# Altium footprint library Juno_Light_Driver.PcbLib: 8 footprints
Each footprint in its own frame and in the unit in brackets; x right, y up, seen from the top. Pads: shape width x height; smd on the part's side, far side on the other; paste and mask are expansions set on the pad; w line width, h text height; cw(c..) or ccw(c..) is an arc to the next point about the centre after c.
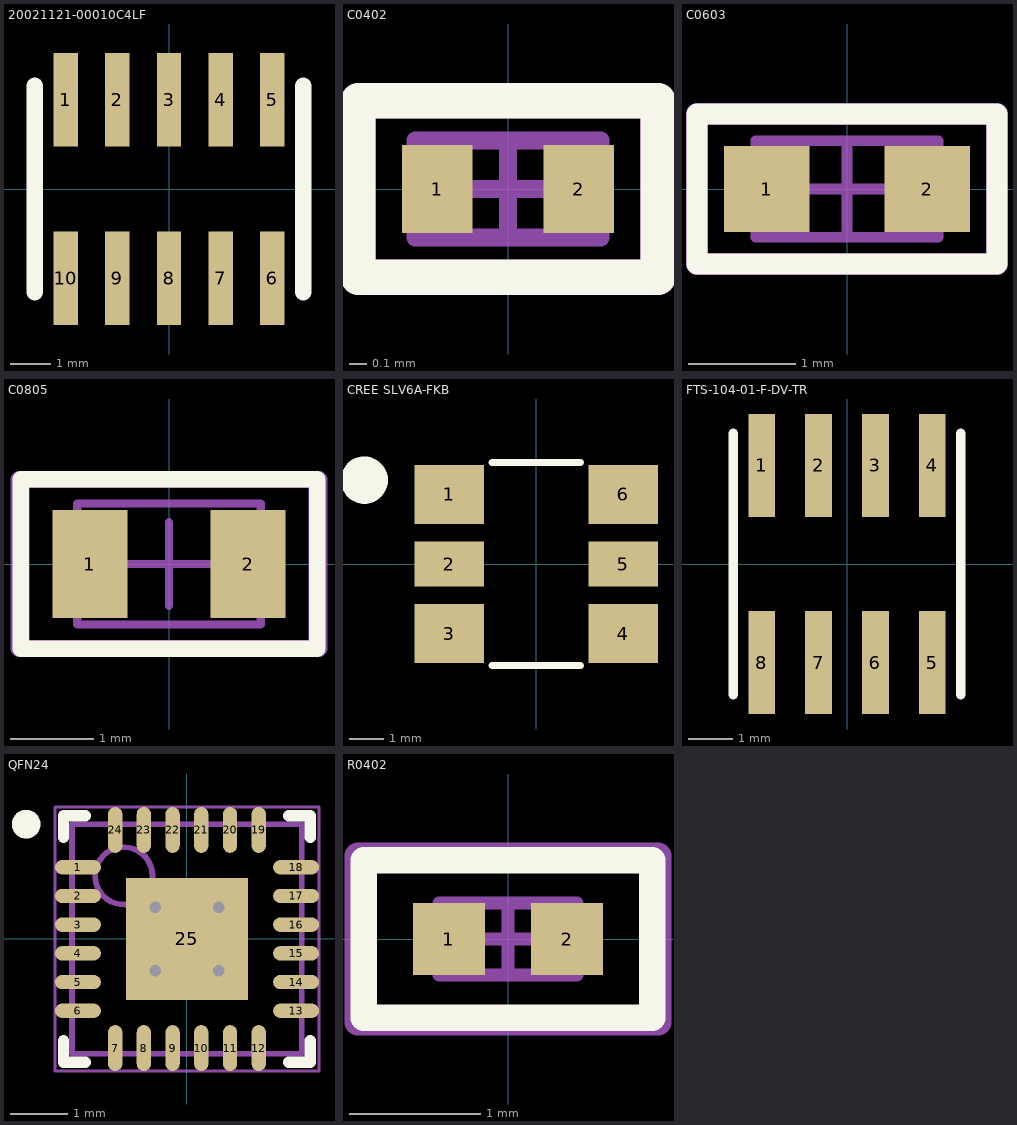
[diagram p0: the footprints below, top view; thin cyan lines are the x and y axes]

## 20021121-00010C4LF [mm]
pads (10):
  rect 0.6x2.3 smd: 1(-2.54,2.2) 2(-1.27,2.2) 3(0,2.2) 4(1.27,2.2) 5(2.54,2.2) 6(2.54,-2.2) 7(1.27,-2.2) 8(0,-2.2) 9(-1.27,-2.2) 10(-2.54,-2.2)
Top Overlay:
  lines w0.406: -3.302,-2.54 -3.302,2.54 ; 3.302,-2.54 3.302,2.54
3D body "20021121-00010XXLFc.stp": height 4.5, standoff 0, extent -3.175,-2.75 3.175,2.75

## C0402 [mm] "Chip Capacitor, 2-Leads, Body 1.00x0.50mm, IPC Medium Density"
height 0.55
pads (2):
  rect 0.4x0.5 smd: 1(-0.4,0) 2(0.4,0)
Top Overlay:
  lines w0.2: -0.85,-0.5 -0.85,0.5 0.85,0.5 0.85,-0.5 -0.85,-0.5
Mechanical 12:
  lines w0.1: -0.254,0 0.254,0 ; 0,-0.254 0,0.254
  lines w0.203: -0.85,-0.5 -0.85,0.5 0.85,0.5 0.85,-0.5 -0.85,-0.5
Mechanical 13:
  lines w0.1: -0.525,-0.275 -0.525,0.275 0.525,0.275 0.525,-0.275 -0.525,-0.275
Mechanical 15:
  lines w0.203: -0.85,-0.5 -0.85,0.5 0.85,0.5 0.85,-0.5 -0.85,-0.5
  text ".Designator" at -0.7,-0.2 h0.33
3D body "CAPC1005X06N.step": height 0.55, standoff 0, extent -0.525,-0.275 0.525,0.275

## C0603 [mm] "Chip Capacitor, 2-Leads, Body 1.60x0.80mm, IPC Medium Density"
height 0.9
pads (2):
  rect 0.8x0.8 smd: 1(-0.75,0) 2(0.75,0)
Top Overlay:
  lines w0.2: -1.4,-0.7 1.4,-0.7 1.4,0.7 -1.4,0.7 -1.4,-0.7
Mechanical 12:
  lines w0.1: -0.381,0 0.381,0 ; 0,-0.381 0,0.381
  lines w0.203: -1.4,-0.7 -1.4,0.7 1.4,0.7 1.4,-0.7 -1.4,-0.7
Mechanical 13:
  lines w0.1: -0.85,-0.45 0.85,-0.45 0.85,0.45 -0.85,0.45 -0.85,-0.45
Mechanical 15:
  lines w0.203: -1.4,-0.7 1.4,-0.7 1.4,0.7 -1.4,0.7 -1.4,-0.7
  text ".Designator" at -1.2,-0.4 h0.64
3D body "CAPC1608X09N.step": height 0.9, standoff 0, extent -0.85,-0.45 0.85,0.45

## C0805 [mm] "Chip Capacitor, 2-Leads, Body 2.00x1.25mm, IPC Medium Density"
height 1
pads (2):
  rect 0.9x1.3 smd: 1(-0.95,0) 2(0.95,0)
Top Overlay:
  lines w0.2: -1.778,-1.016 1.778,-1.016 1.778,1.016 -1.778,1.016 -1.778,-1.016
Mechanical 12:
  lines w0.1: -0.5,0 0.5,0 ; 0,-0.5 0,0.5
  lines w0.203: -1.778,-1.016 1.778,-1.016 1.778,1.016 -1.778,1.016 -1.778,-1.016
Mechanical 13:
  lines w0.1: -1.1,-0.725 -1.1,0.725 1.1,0.725 1.1,-0.725 -1.1,-0.725
Mechanical 15:
  lines w0.203: -1.8,-1.016 -1.8,1.016 1.8,1.016 1.8,-1.016 -1.8,-1.016
  text ".Designator" at -1.524,-0.762 h0.89
3D body "CAPC2012X10N.step": height 1, standoff 0, extent -1.1,-0.725 1.1,0.725

## CREE SLV6A-FKB [mm]
pads (6):
  rect 2x1.7 smd: 1(-2.5,2) 3(-2.5,-2) 4(2.5,-2) 6(2.5,2)
  rect 2x1.3 smd: 2(-2.5,0) 5(2.5,0)
Top Overlay:
  circle w1: c-4.953,2.413 r0.18
  lines w0.203: -1.27,-2.921 1.27,-2.921 ; -1.27,2.921 1.27,2.921
3D body "CREE - SLV6A-FKB.step": height 2.6, standoff 0, extent -2.8,-2.8 2.8,2.8

## FTS-104-01-F-DV-TR [mm]
pads (8):
  rect 0.6x2.3 smd: 1(-1.905,2.2) 2(-0.635,2.2) 3(0.635,2.2) 4(1.905,2.2) 5(1.905,-2.2) 6(0.635,-2.2) 7(-0.635,-2.2) 8(-1.905,-2.2)
Top Overlay:
  lines w0.203: -2.54,-2.921 -2.54,2.921 ; 2.54,-2.921 2.54,2.921
3D body "FTS-104-01-F-DV-TR.stp": height 4.31, standoff -0.01, extent -2.54,-2.921 2.54,2.921

## QFN24 [mm] "QFN, 24-Leads, Body 3.93x3.93mm, Pitch 0.50mm, Thermal Pad 2.13x2.13mm, IPC High Density"
height 1
pads (25):
  oval 0.8x0.25 smd: 1(-1.9,1.25) 2(-1.9,0.75) 3(-1.9,0.25) 4(-1.9,-0.25) 5(-1.9,-0.75) 6(-1.9,-1.25) 13(1.9,-1.25) 14(1.9,-0.75) 15(1.9,-0.25) 16(1.9,0.25) 17(1.9,0.75) 18(1.9,1.25)
  oval 0.25x0.8 smd: 7(-1.25,-1.9) 8(-0.75,-1.9) 9(-0.25,-1.9) 10(0.25,-1.9) 11(0.75,-1.9) 12(1.25,-1.9) 19(1.25,1.9) 20(0.75,1.9) 21(0.25,1.9) 22(-0.25,1.9) 23(-0.75,1.9) 24(-1.25,1.9)
  rect 2.13x2.13 smd: 25(0,0)
via -0.55,0.55 diameter 0.5 hole 0.2
via 0.55,0.55 diameter 0.5 hole 0.2
via -0.55,-0.55 diameter 0.5 hole 0.2
via 0.55,-0.55 diameter 0.5 hole 0.2
Top Overlay:
  circle w0.25: c-2.8,2 r0.125
  lines w0.2: -2.15,-1.775 -2.15,-2.15 -1.775,-2.15 ; -2.15,1.775 -2.15,2.15 -1.775,2.15 ; 1.775,-2.15 2.15,-2.15 2.15,-1.775 ; 1.775,2.15 2.15,2.15 2.15,1.775
Mechanical 13:
  circle w0.1: c-1.1,1.1 r0.5
  lines w0.1: -2,-2 -2,2 2,2 2,-2 -2,-2
Mechanical 15:
  lines w0.05: -2.3,-2.3 -2.3,2.3 2.3,2.3 2.3,-2.3 -2.3,-2.3
  lines w0.1: -0.5,0 0.5,0 ; 0,-0.5 0,0.5
3D body "QFN50P392X392X100_HS-25L.step": height 1, standoff 0, extent -2.05,-2.05 2.05,2.05

## R0402 [mm] "Chip Resistor, 2-Leads, Body 1.00x0.50mm, IPC Medium Density"
height 0.4
pads (2):
  rect 0.55x0.55 smd: 1(-0.45,0) 2(0.45,0)
Top Overlay:
  lines w0.2: -1.1,-0.6 -1.1,0.6 1.1,0.6 1.1,-0.6 -1.1,-0.6
Mechanical 12:
  lines w0.1: -0.254,0 0.254,0 ; 0,-0.254 0,0.254
  lines w0.203: -1.143,-0.635 -1.143,0.635 1.143,0.635 1.143,-0.635 -1.143,-0.635
Mechanical 13:
  lines w0.1: -0.525,-0.275 0.525,-0.275 0.525,0.275 -0.525,0.275 -0.525,-0.275
Mechanical 15:
  lines w0.203: -1.143,-0.635 1.143,-0.635 1.143,0.635 -1.143,0.635 -1.143,-0.635
  text ".Designator" at -0.889,-0.381 h0.51
3D body "RESC1005X04N.step": height 0.4, standoff 0, extent -0.525,-0.275 0.525,0.275